# Altium footprint library CLF10040T-331M-D.PcbLib: 1 footprints
Each footprint in its own frame and in the unit in brackets; x right, y up, seen from the top. Pads: shape width x height; smd on the part's side, far side on the other; paste and mask are expansions set on the pad; w line width, h text height; cw(c..) or ccw(c..) is an arc to the next point about the centre after c.
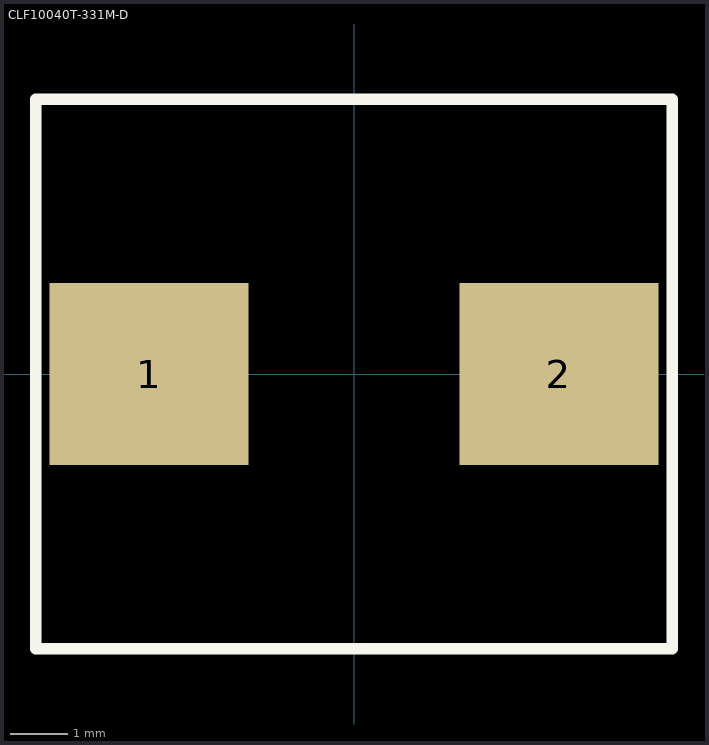
[diagram p0: the footprint, top view; thin cyan lines are the x and y axes]

## CLF10040T-331M-D [mm]
height 0.9
pads (2):
  rect 3.5x3.2 smd: 1(-3.6,0) 2(3.6,0)
Top Overlay:
  lines w0.2: -5.588,-4.826 -5.588,4.826 5.588,4.826 5.588,-4.826 -5.588,-4.826
Top Assembly:
  lines w0.1: -5.588,-4.826 5.588,-4.826 5.588,4.826 -5.588,4.826 -5.588,-4.826
  text "'.Designator'" at -0.95,-0.35 h0.7
3D body "10x9_7x3_8.stp": height 3.8, standoff 0, extent -5,-4.85 5,4.85